# EAGLE library part B12B-PHDSS (library con-jst-phd)
JST PHD series header 2.00mm pitch disconnectable crimp style connectors, vertical (side entry type), 12 pins
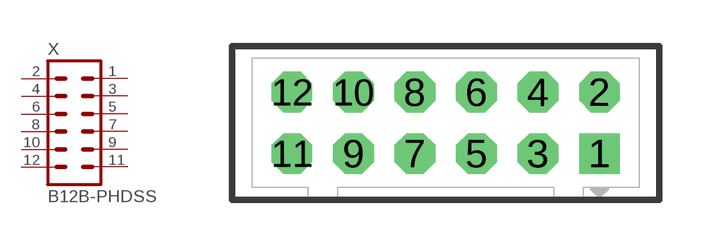
[diagram p2: symbol with the pads of B12B-PHDSS; footprint B12B-PHDSS]

Designator prefix X

## B12B-PHDSS  [B12B-PHDSS]
1  1  pas
2  2  pas
3  3  pas
4  4  pas
5  5  pas
6  6  pas
7  7  pas
8  8  pas
9  9  pas
10  10  pas
11  11  pas
12  12  pas

## B12B-PHDSS-B  [B12B-PHDSS]
Pads as for B12B-PHDSS

## Footprint B12B-PHDSS (pad centres in mm)
JST PHD series header 2.00mm pitch disconnectable crimp style connectors, through-hole vertical (top entry type), 12 pins
drill 0.7 pad 1.321 square: 1 5,-1
drill 0.7 pad 1.321 octagon: 2 5,1; 3 3,-1; 4 3,1; 5 1,-1; 6 1,1; 7 -1,-1; 8 -1,1; 9 -3,-1; 10 -3,1; 11 -5,-1; 12 -5,1